# Altium footprint library 小毛元件库封装02.PCBLIB: 15 footprints
Each footprint in its own frame and in the unit in brackets; x right, y up, seen from the top. Pads: shape width x height; smd on the part's side, far side on the other; paste and mask are expansions set on the pad; w line width, h text height; cw(c..) or ccw(c..) is an arc to the next point about the centre after c.
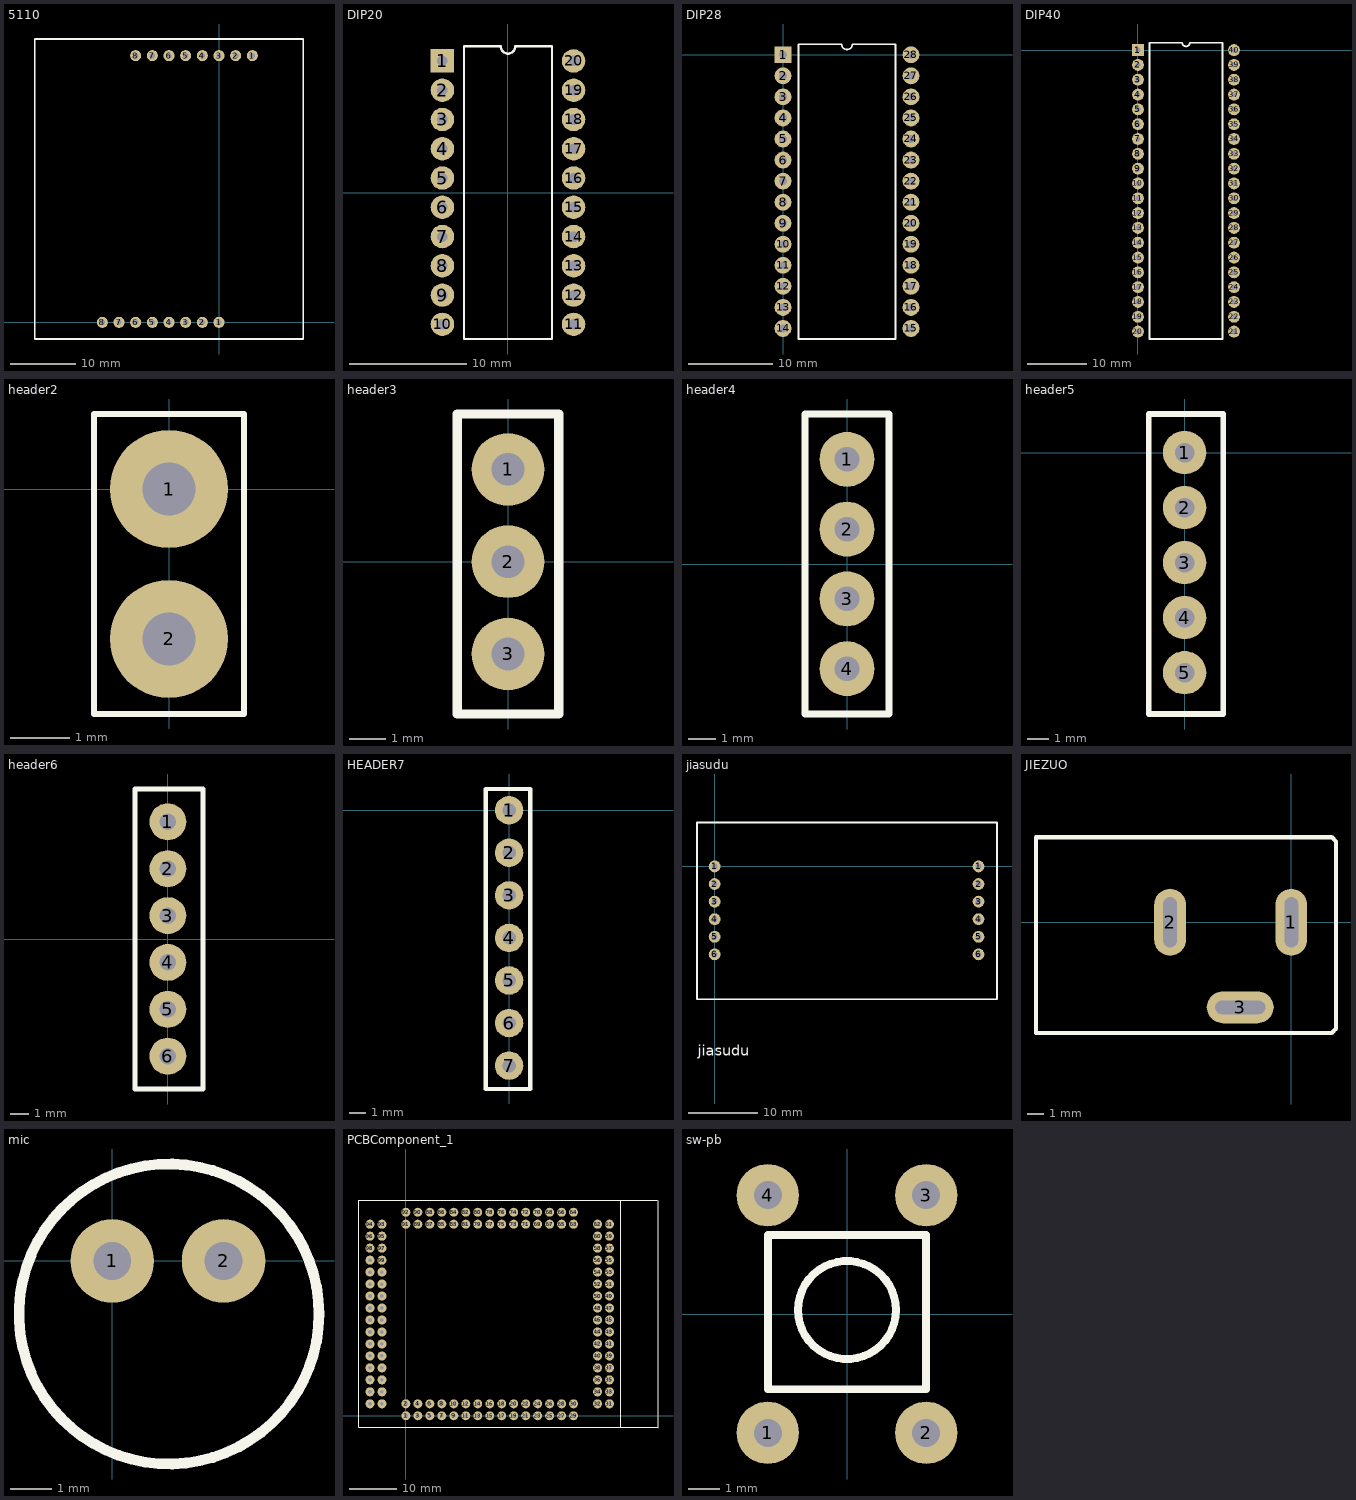
[diagram p0: the footprints below, top view; thin cyan lines are the x and y axes]

## 5110 [mm]
pads (16):
  round 1.7 hole 0.8: 1(0,0) 1(5.08,40.64) 2(-2.54,0) 2(2.54,40.64) 3(-5.08,0) 3(0,40.64) 4(-7.62,0) 4(-2.54,40.64) 5(-10.16,0) 5(-5.08,40.64) 6(-12.7,0) 6(-7.62,40.64) 7(-15.24,0) 7(-10.16,40.64) 8(-17.78,0) 8(-12.7,40.64)
Top Overlay:
  lines w0.254: -28.067,-2.54 -28.067,43.18 12.827,43.18 12.827,-2.54 -28.067,-2.54

## DIP20 [mm]
pads (20):
  rect 2x2 hole 0.9: 1(-5.6,11.25)
  round 2 hole 0.9: 2(-5.6,8.75) 3(-5.6,6.25) 4(-5.6,3.75) 5(-5.6,1.25) 6(-5.6,-1.25) 7(-5.6,-3.75) 8(-5.6,-6.25) 9(-5.6,-8.75) 10(-5.6,-11.25) 11(5.6,-11.25) 12(5.6,-8.75) 13(5.6,-6.25) 14(5.6,-3.75) 15(5.6,-1.25) 16(5.6,1.25) 17(5.6,3.75) 18(5.6,6.25) 19(5.6,8.75) 20(5.6,11.25)
Top Overlay:
  lines w0.2: -3.765,-12.5 -3.765,12.5 -0.625,12.5 ccw(c0,12.5) 0.625,12.5 3.765,12.5 3.765,-12.5 -3.765,-12.5

## DIP28 [mm]
pads (28):
  rect 2x2 hole 0.9: 1(0,0)
  round 2 hole 0.9: 2(0,-2.5) 3(0,-5) 4(0,-7.5) 5(0,-10) 6(0,-12.5) 7(0,-15) 8(0,-17.5) 9(0,-20) 10(0,-22.5) 11(0,-25) 12(0,-27.5) 13(0,-30) 14(0,-32.5) 15(15.2,-32.5) 16(15.2,-30) 17(15.2,-27.5) 18(15.2,-25) 19(15.2,-22.5) 20(15.2,-20) 21(15.2,-17.5) 22(15.2,-15) 23(15.2,-12.5) 24(15.2,-10) 25(15.2,-7.5) 26(15.2,-5) 27(15.2,-2.5) 28(15.2,0)
Top Overlay:
  lines w0.2: 1.835,-33.75 13.365,-33.75 13.365,1.25 8.225,1.25 cw(c7.6,1.25) 6.975,1.25 1.835,1.25 1.835,-33.75

## DIP40 [mm]
pads (40):
  rect 2x2 hole 0.9: 1(0,0)
  round 2 hole 0.9: 2(0,-2.5) 3(0,-5) 4(0,-7.5) 5(0,-10) 6(0,-12.5) 7(0,-15) 8(0,-17.5) 9(0,-20) 10(0,-22.5) 11(0,-25) 12(0,-27.5) 13(0,-30) 14(0,-32.5) 15(0,-35) 16(0,-37.5) 17(0,-40) 18(0,-42.5) 19(0,-45) 20(0,-47.5) 21(16.2,-47.5) 22(16.2,-45) 23(16.2,-42.5) 24(16.2,-40) 25(16.2,-37.5) 26(16.2,-35) 27(16.2,-32.5) 28(16.2,-30) 29(16.2,-27.5) 30(16.2,-25) 31(16.2,-22.5) 32(16.2,-20) 33(16.2,-17.5) 34(16.2,-15) 35(16.2,-12.5) 36(16.2,-10) 37(16.2,-7.5) 38(16.2,-5) 39(16.2,-2.5) 40(16.2,0)
Top Overlay:
  lines w0.3: 1.935,-48.75 1.935,1.25 7.475,1.25 ccw(c8.1,1.25) 8.725,1.25 14.265,1.25 14.265,-48.75 1.935,-48.75

## header2 [mm]
pads (2):
  round 2 hole 0.9: 1(0,0) 2(0,-2.54)
Top Overlay:
  lines w0.1: -1.27,-3.81 -1.27,1.27 1.27,1.27 1.27,-3.81 -1.27,-3.81

## header3 [mm]
pads (3):
  round 2 hole 0.9: 1(0,2.54) 2(0,0) 3(0,-2.54)
Top Overlay:
  lines w0.254: -1.397,-4.191 -1.397,4.064 1.397,4.064 1.397,-4.191 -1.397,-4.191

## header4 [mm]
pads (4):
  round 2 hole 0.9: 1(0,3.81) 2(0,1.27) 3(0,-1.27) 4(0,-3.81)
Top Overlay:
  lines w0.254: -1.524,-5.461 -1.524,5.461 1.524,5.461 1.524,-5.461 -1.524,-5.461

## header5 [mm]
pads (5):
  round 2 hole 0.9: 1(0,0) 2(0,-2.54) 3(0,-5.08) 4(0,-7.62) 5(0,-10.16)
Top Overlay:
  lines w0.254: -1.651,-12.065 -1.651,1.778 1.778,1.778 1.778,-12.065 -1.651,-12.065

## header6 [mm]
pads (6):
  round 2 hole 0.9: 1(0,6.35) 2(0,3.81) 3(0,1.27) 4(0,-1.27) 5(0,-3.81) 6(0,-6.35)
Top Overlay:
  lines w0.254: -1.778,-8.128 1.905,-8.128 1.905,8.128 -1.778,8.128 -1.778,-8.128

## HEADER7 [mm]
pads (7):
  round 1.7 hole 0.8: 1(0,0) 2(0,-2.54) 3(0,-5.08) 4(0,-7.62) 5(0,-10.16) 6(0,-12.7) 7(0,-15.24)
Top Overlay:
  lines w0.254: -1.397,-16.637 1.27,-16.637 1.27,1.27 -1.397,1.27 -1.397,0.889 -1.397,-16.637

## jiasudu [mm]
pads (12):
  round 1.7 hole 0.9: 1(0,0) 1(38.1,0) 2(0,-2.54) 2(38.1,-2.54) 3(0,-5.08) 3(38.1,-5.08) 4(0,-7.62) 4(38.1,-7.62) 5(0,-10.16) 5(38.1,-10.16) 6(0,-12.7) 6(38.1,-12.7)
Top Overlay:
  lines w0.254: -2.54,-19.177 -2.54,6.35 40.767,6.35 40.767,-19.177 -2.54,-19.177
  text "jiasudu" at -2.413,-27.305 h1.52

## JIEZUO [mm]
pads (3):
  oval 1.9x4 hole 0.8 slot 3 at 90 deg: 1(0,0) 2(-7.239,0)
  oval 4x1.9 hole 0.8 slot 3 at 0 deg: 3(-3.048,-5.08)
Top Overlay:
  lines w0.254: -15.24,-6.604 2.413,-6.604 2.667,-6.35 2.667,4.826 2.413,5.08 -10.16,5.08 -15.24,5.08 -15.24,-6.604

## mic [mm]
pads (2):
  round 2 hole 0.9: 1(0,0) 2(2.667,0)
Top Overlay:
  circle w0.254: c1.361,-1.27 r3.592

## PCBComponent_1 [mm]
pads (124):
  round 1.9 hole 0.9: 1(0,0) 2(0,2.54)
  round 1.9 hole 0.762: 3(2.54,0) 4(2.54,2.54) 5(5.08,0) 6(5.08,2.54) 7(7.62,0) 8(7.62,2.54) 9(10.16,0) 10(10.16,2.54) 11(12.7,0) 12(12.7,2.54) 13(15.24,0) 14(15.24,2.54) 15(17.78,0) 16(17.78,2.54) 17(20.32,0) 18(20.32,2.54) 19(22.86,0) 20(22.86,2.54) 21(25.4,0) 22(25.4,2.54) 23(27.94,0) 24(27.94,2.54) 25(30.48,0) 26(30.48,2.54) 27(33.02,0) 28(33.02,2.54) 29(35.56,0) 30(35.56,2.54) 31(43.18,2.54) 32(40.64,2.54) 33(43.18,5.08) 34(40.64,5.08) 35(43.18,7.62) 36(40.64,7.62) 37(43.18,10.16) 38(40.64,10.16) 39(43.18,12.7) 40(40.64,12.7) 41(43.18,15.24) 42(40.64,15.24) 43(43.18,17.78) 44(40.64,17.78) 45(43.18,20.32) 46(40.64,20.32) 47(43.18,22.86) 48(40.64,22.86) 49(43.18,25.4) 50(40.64,25.4) 51(43.18,27.94) 52(40.64,27.94) 53(43.18,30.48) 54(40.64,30.48) 55(43.18,33.02) 56(40.64,33.02) 57(43.18,35.56) 58(40.64,35.56) 59(43.18,38.1) 60(40.64,38.1) 61(43.18,40.64) 62(40.64,40.64) 63(35.56,40.64) 64(35.56,43.18) 65(33.02,40.64) 66(33.02,43.18) 67(30.48,40.64) 68(30.48,43.18) 69(27.94,40.64) 70(27.94,43.18) 71(25.4,40.64) 72(25.4,43.18) 73(22.86,40.64) 74(22.86,43.18) 75(20.32,40.64) 76(20.32,43.18) 77(17.78,40.64) 78(17.78,43.18) 79(15.24,40.64) 80(15.24,43.18) 81(12.7,40.64) 82(12.7,43.18) 83(10.16,40.64) 84(10.16,43.18) 85(7.62,40.64) 86(7.62,43.18) 87(5.08,40.64) 88(5.08,43.18) 89(2.54,40.64) 90(2.54,43.18) 91(0,40.64) 92(0,43.18) 93(-5.08,40.64) 94(-7.62,40.64) 95(-5.08,38.1) 96(-7.62,38.1) 97(-5.08,35.56) 98(-7.62,35.56) 99(-5.08,33.02) 100(-7.62,33.02) 101(-5.08,30.48) 102(-7.62,30.48) 103(-5.08,27.94) 104(-7.62,27.94) 105(-5.08,25.4) 106(-7.62,25.4) 107(-5.08,22.86) 108(-7.62,22.86) 109(-5.08,20.32) 110(-7.62,20.32) 111(-5.08,17.78) 112(-7.62,17.78) 113(-5.08,15.24) 114(-7.62,15.24) 115(-5.08,12.7) 116(-7.62,12.7) 117(-5.08,10.16) 118(-7.62,10.16) 119(-5.08,7.62) 120(-7.62,7.62) 121(-5.08,5.08) 122(-7.62,5.08) 123(-5.08,2.54) 124(-7.62,2.54)
Top Overlay:
  lines w0.254: -10.16,45.72 45.593,45.72 ; -10.033,45.593 -10.033,-2.413 45.466,-2.413 ; 45.466,-2.413 53.34,-2.413 53.467,-2.54 53.467,45.593 53.34,45.72 45.593,45.72 ; 45.466,-2.413 45.593,-2.286 45.593,45.72

## sw-pb [mm]
pads (4):
  round 2 hole 0.9: 1(-2.54,-3.81) 2(2.54,-3.81) 3(2.54,3.81) 4(-2.54,3.81)
Top Overlay:
  circle w0.254: c0,0.127 r1.571
  lines w0.254: -2.54,-2.413 -2.54,2.54 2.54,2.54 2.54,-2.413 -2.54,-2.413